# EAGLE library part HOLDER-PS/2 (library Connector )
MINI DIN FEMALE
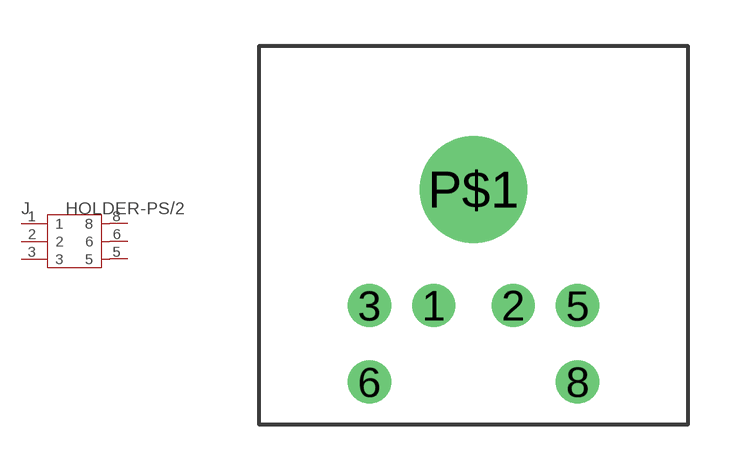
[diagram p7: symbol with the pads of 6P-14.0X12.4-90D; footprint 6P-14.0X12.4-90D]

Designator prefix J

## HOLDER-PS/2'-90D'  [6P-14.0X12.4-90D]
1  1
2  2
3  3
5  5
6  6
8  8

## Footprint 6P-14.0X12.4-90D (pad centres in mm)
drill 0.9 pad 1.4: 1 -1.3,-2.3; 2 1.3,-2.3; 3 -3.4,-2.3; 5 3.4,-2.3; 6 -3.4,-4.8; 8 3.4,-4.8
drill 2.2 pad 3.5: P$1 0,1.5